# Altium schematic symbol library MCU.SchLib: 35 symbols (part 2 of 2)
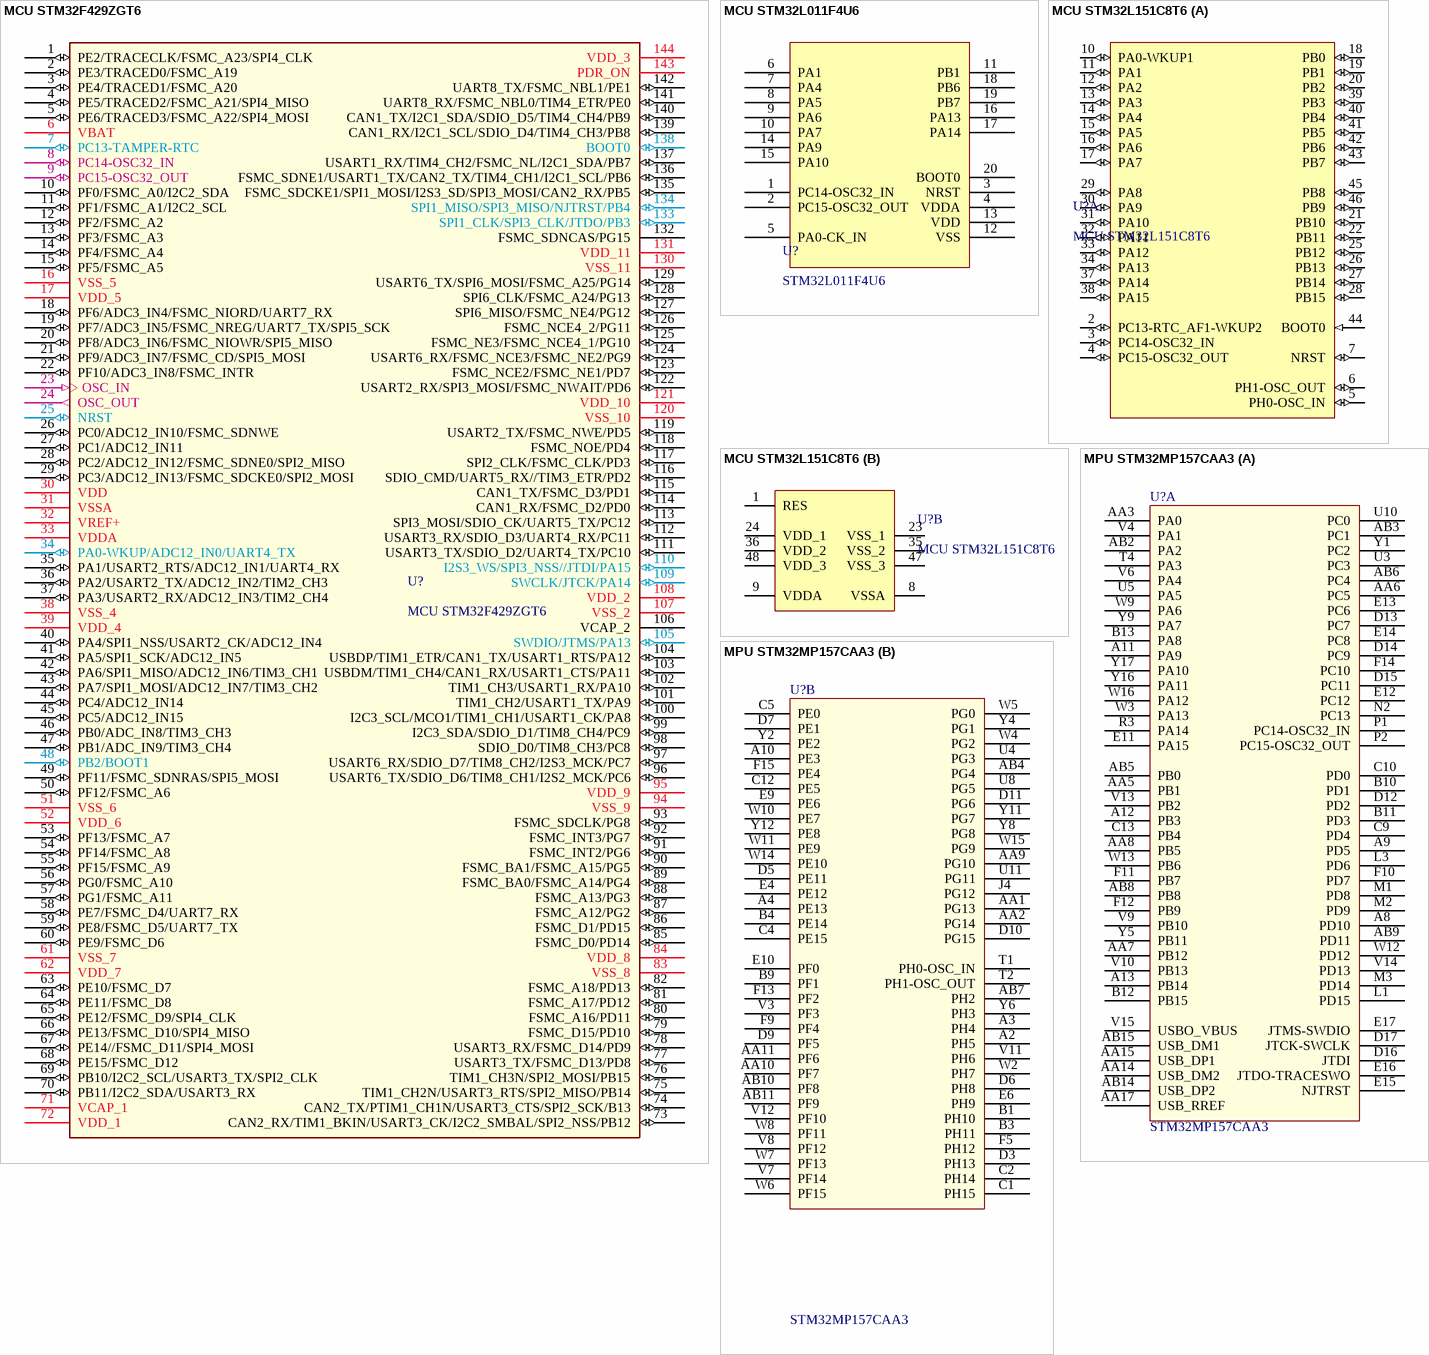
[diagram p10: symbols MCU STM32F429ZGT6 to MPU STM32MP157CAA3]

## MCU STM32L011F4U6
designator U?, comment STM32L011F4U6
ARM; ComponentLink1Description: 供应商链接; ComponentLink1URL: http://www.szlcsc.com/product/details_10393.html; Package: LQFP-48_7x7x05P; Supplier: LC; SuppliersPartNumber: C9861
footprint UFQFPN20
pins: 1 PC14-OSC32_IN, 2 PC15-OSC32_OUT, 3 NRST, 4 VDDA, 5 PA0-CK_IN, 6 PA1, 7 PA4, 8 PA5, 9 PA6, 10 PA7, 11 PB1, 12 VSS, 13 VDD, 14 PA9, 15 PA10, 16 PA13, 17 PA14, 18 PB6, 19 PB7, 20 BOOT0

## MCU STM32L151C8T6
designator U?
ARM; ComponentLink1Description: 供应商链接; ComponentLink1URL: http://www.szlcsc.com/product/details_10393.html; Package: LQFP-48_7x7x05P; Supplier: LC; SuppliersPartNumber: C9861
footprint LQFP48 7X7
part A pins: 2 PC13-RTC_AF1-WKUP2 (io), 3 PC14-OSC32_IN (io), 4 PC15-OSC32_OUT (io), 5 PH0-OSC_IN (io), 6 PH1-OSC_OUT (io), 7 NRST (io), 10 PA0-WKUP1 (io), 11 PA1 (io), 12 PA2 (io), 13 PA3 (io), 14 PA4 (io), 15 PA5 (io), 16 PA6 (io), 17 PA7 (io), 18 PB0 (io), 19 PB1 (io), 20 PB2 (io), 21 PB10 (io), 22 PB11 (io), 25 PB12 (io), 26 PB13 (io), 27 PB14 (io), 28 PB15 (io), 29 PA8 (io), 30 PA9 (io), 31 PA10 (io), 32 PA11 (io), 33 PA12 (io), 34 PA13 (io), 37 PA14 (io), 38 PA15 (io), 39 PB3 (io), 40 PB4 (io), 41 PB5 (io), 42 PB6 (io), 43 PB7 (io), 44 BOOT0 (in), 45 PB8 (io), 46 PB9 (io)
part B pins: 1 RES (power) "Connect to VDD", 8 VSSA (power), 9 VDDA (power), 23 VSS_1 (power), 24 VDD_1 (power), 35 VSS_2 (power), 36 VDD_2 (power), 47 VSS_3 (power), 48 VDD_3 (power)

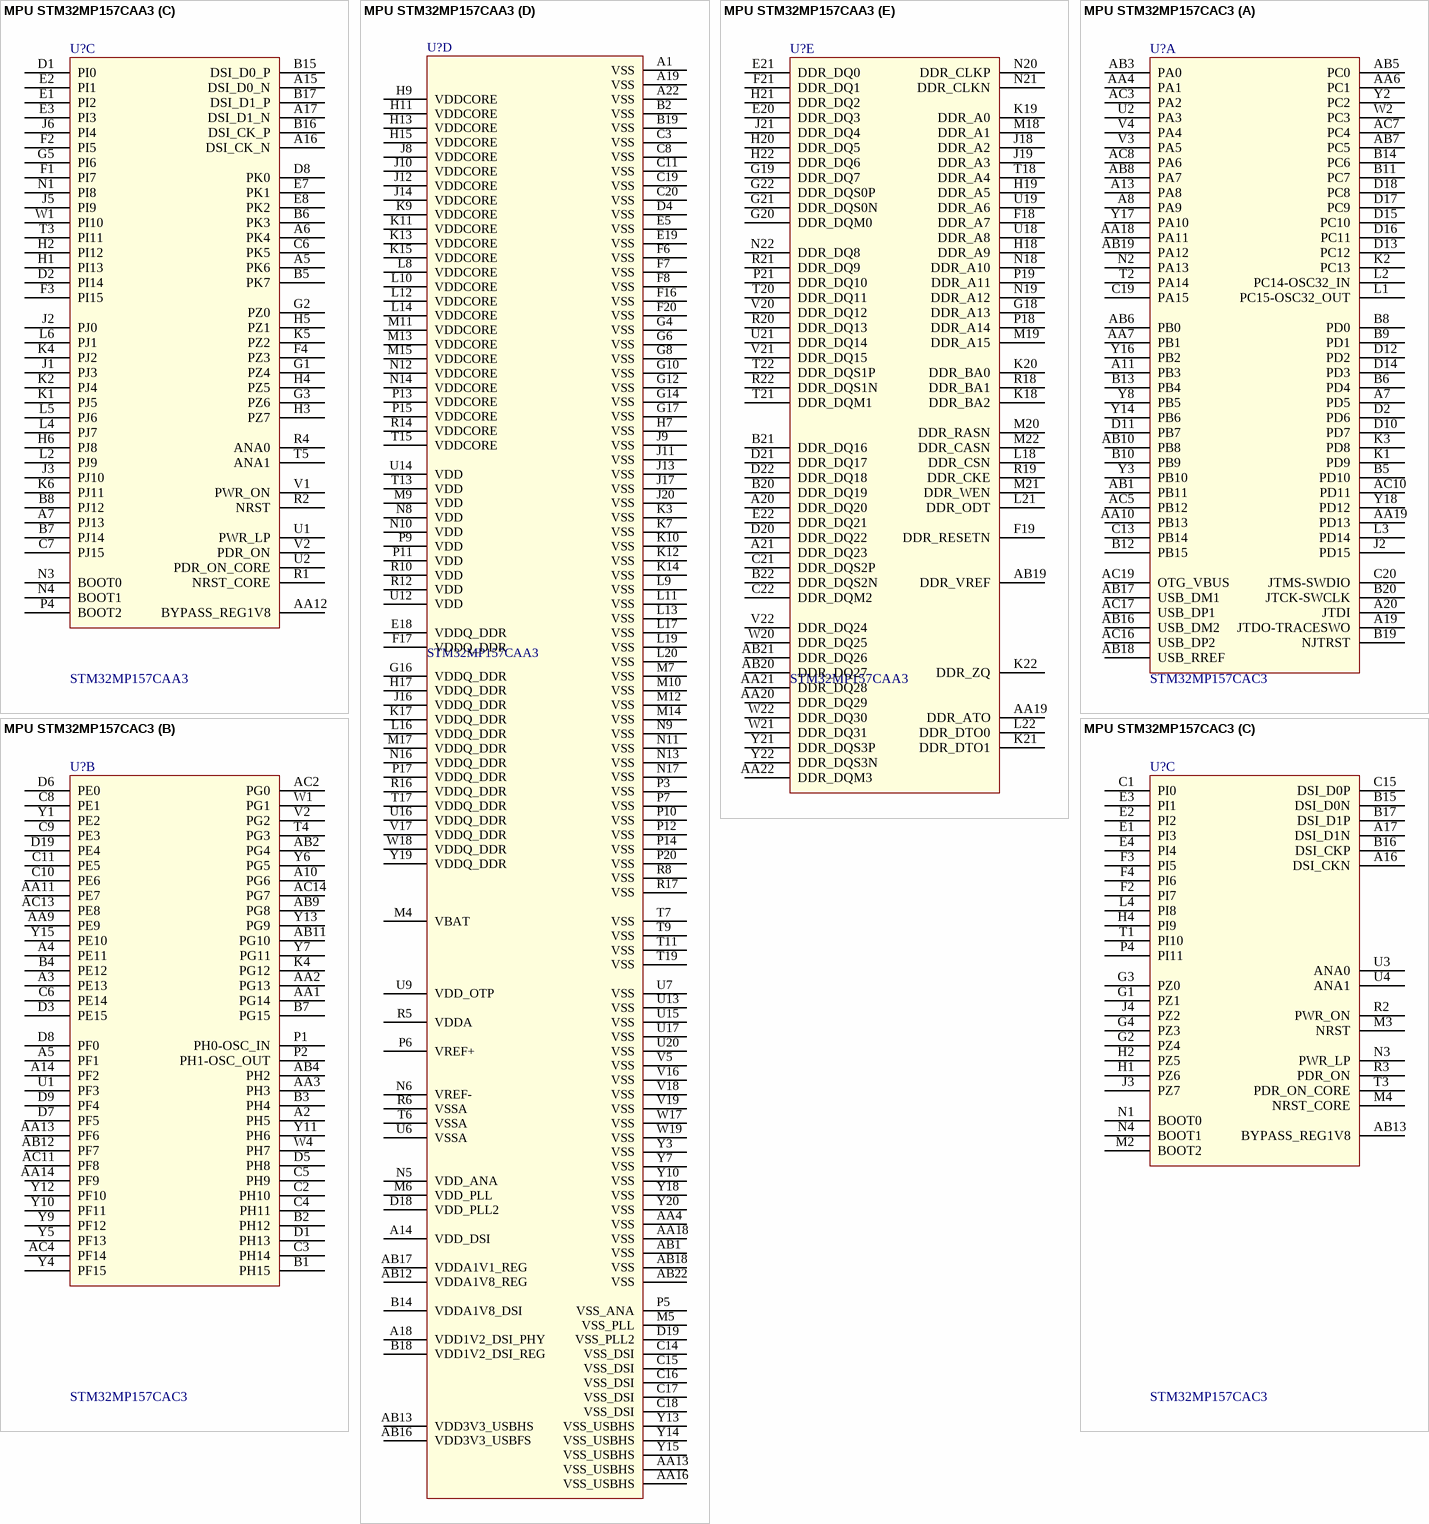
[diagram p8: symbols MPU STM32MP157CAA3 to MPU STM32MP157CAC3]

## MPU STM32MP157CAA3
designator U?, comment STM32MP157CAA3
MPU; Manuf_1: ST; Fitted: YES; Ordered_By: Subcon; Value: STM32MP157CAA3_Socket; Distrib: ST; ECCN_US/EU: *; Manuf_Part_1: STM32MP157CAA3; Order_Code: *
footprint LFBGA-448_18X18X05P
part A pins: A8 PD10, A9 PD5, A11 PA9, A12 PB3, A13 PB14, AA3 PA0, AA5 PB1, AA6 PC5, AA7 PB12, AA8 PB5, AA14 USB_DM2, AA15 USB_DP1, AA17 USB_RREF, AB2 PA2, AB3 PC1, AB5 PB0, AB6 PC4, AB8 PB8, AB9 PD11, AB14 USB_DP2, AB15 USB_DM1, B10 PD1, B11 PD3, B12 PB15, B13 PA8, C9 PD4, C10 PD0, C13 PB4, D12 PD2, D13 PC7, D14 PC9, D15 PC11, D16 JTDI, D17 JTCK-SWCLK, E11 PA15, E12 PC12, E13 PC6, E14 PC8, E15 NJTRST, E16 JTDO-TRACESWO, E17 JTMS-SWDIO, F10 PD7, F11 PB7, F12 PB9, F14 PC10, L1 PD15, L3 PD6, M1 PD8, M2 PD9, M3 PD14, N2 PC13, P1 PC14-OSC32_IN, P2 PC15-OSC32_OUT, R3 PA14, T4 PA3, U3 PC3, U5 PA5, U10 PC0, V4 PA1, V6 PA4, V9 PB10, V10 PB13, V13 PB2, V14 PD13, V15 USBO_VBUS, W3 PA13, W9 PA6, W12 PD12, W13 PB6, W16 PA12, Y1 PC2, Y5 PB11, Y9 PA7, Y16 PA11, Y17 PA10
part B pins: A2 PH5, A3 PH4, A4 PE13, A10 PE3, AA1 PG13, AA2 PG14, AA9 PG10, AA10 PF7, AA11 PF6, AB4 PG4, AB7 PH2, AB10 PF8, AB11 PF9, B1 PH10, B3 PH11, B4 PE14, B9 PF1, C1 PH15, C2 PH14, C4 PE15, C5 PE0, C12 PE5, D3 PH13, D5 PE11, D6 PH8, D7 PE1, D9 PF5, D10 PG15, D11 PG6, E4 PE12, E6 PH9, E9 PE6, E10 PF0, F5 PH12, F9 PF4, F13 PF2, F15 PE4, J4 PG12, T1 PH0-OSC_IN, T2 PH1-OSC_OUT, U4 PG3, U8 PG5, U11 PG11, V3 PF3, V7 PF14, V8 PF12, V11 PH6, V12 PF10, W2 PH7, W4 PG2, W5 PG0, W6 PF15, W7 PF13, W8 PF11, W10 PE7, W11 PE9, W14 PE10, W15 PG9, Y2 PE2, Y4 PG1, Y6 PH3, Y8 PG8, Y11 PG7, Y12 PE8
part C pins: A5 PK6, A6 PK4, A7 PJ13, A15 DSI_D0_N, A16 DSI_CK_N, A17 DSI_D1_N, AA12 BYPASS_REG1V8, B5 PK7, B6 PK3, B7 PJ14, B8 PJ12, B15 DSI_D0_P, B16 DSI_CK_P, B17 DSI_D1_P, C6 PK5, C7 PJ15, D1 PI0, D2 PI14, D8 PK0, E1 PI2, E2 PI1, E3 PI3, E7 PK1, E8 PK2, F1 PI7, F2 PI5, F3 PI15, F4 PZ3, G1 PZ4, G2 PZ0, G3 PZ6, G5 PI6, H1 PI13, H2 PI12, H3 PZ7, H4 PZ5, H5 PZ1, H6 PJ8, J1 PJ3, J2 PJ0, J3 PJ10, J5 PI9, J6 PI4, K1 PJ5, K2 PJ4, K4 PJ2, K5 PZ2, K6 PJ11, L2 PJ9, L4 PJ7, L5 PJ6, L6 PJ1, N1 PI8, N3 BOOT0, N4 BOOT1, P4 BOOT2, R1 NRST_CORE, R2 NRST, R4 ANA0, T3 PI11, T5 ANA1, U1 PWR_LP, U2 PDR_ON_CORE, V1 PWR_ON, V2 PDR_ON, W1 PI10
part D pins: A1 VSS, A14 VDD_DSI, A18 VDD1V2_DSI_PHY, A19 VSS, A22 VSS, AA4 VSS, AA13 VSS_USBHS, AA16 VSS_USBHS, AA18 VSS, AB1 VSS, AB12 VDDA1V8_REG, AB13 VDD3V3_USBHS, AB16 VDD3V3_USBFS, AB17 VDDA1V1_REG, AB18 VSS, AB22 VSS, B2 VSS, B14 VDDA1V8_DSI, B18 VDD1V2_DSI_REG, B19 VSS, C3 VSS, C8 VSS, C11 VSS, C14 VSS_DSI, C15 VSS_DSI, C16 VSS_DSI, C17 VSS_DSI, C18 VSS_DSI, C19 VSS, C20 VSS, D4 VSS, D18 VDD_PLL2, D19 VSS_PLL2, E5 VSS, E18 VDDQ_DDR, E19 VSS, F6 VSS, F7 VSS, F8 VSS, F16 VSS, F17 VDDQ_DDR, F20 VSS, G4 VSS, G6 VSS, G8 VSS, G10 VSS, G12 VSS, G14 VSS, G16 VDDQ_DDR, G17 VSS, H7 VSS, H9 VDDCORE, H11 VDDCORE, H13 VDDCORE, H15 VDDCORE, H17 VDDQ_DDR, J8 VDDCORE, J9 VSS, J10 VDDCORE, J11 VSS, J12 VDDCORE, J13 VSS, J14 VDDCORE, J16 VDDQ_DDR, J17 VSS, J20 VSS, K3 VSS, K7 VSS, K9 VDDCORE, K10 VSS, K11 VDDCORE, K12 VSS, K13 VDDCORE, K14 VSS, K15 VDDCORE, K17 VDDQ_DDR, L8 VDDCORE, L9 VSS, L10 VDDCORE, L11 VSS, L12 VDDCORE, L13 VSS, L14 VDDCORE, L16 VDDQ_DDR, L17 VSS, L19 VSS, L20 VSS, M4 VBAT, M5 VSS_PLL, M6 VDD_PLL, M7 VSS, M9 VDD, M10 VSS, M11 VDDCORE, M12 VSS, M13 VDDCORE, M14 VSS, M15 VDDCORE, M17 VDDQ_DDR, N5 VDD_ANA, N6 VREF-, N8 VDD, N9 VSS, N10 VDD, N11 VSS, N12 VDDCORE, N13 VSS, N14 VDDCORE, N16 VDDQ_DDR, N17 VSS, P3 VSS, P5 VSS_ANA, P6 VREF+, P7 VSS, P9 VDD, P10 VSS, P11 VDD, P12 VSS, P13 VDDCORE, P14 VSS, P15 VDDCORE, P17 VDDQ_DDR, P20 VSS, R5 VDDA, R6 VSSA, R8 VSS, R10 VDD, R12 VDD, R14 VDDCORE, R16 VDDQ_DDR, R17 VSS, T6 VSSA, T7 VSS, T9 VSS, T11 VSS, T13 VDD, T15 VDDCORE, T17 VDDQ_DDR, T19 VSS, U6 VSSA, U7 VSS, U9 VDD_OTP, U12 VDD, U13 VSS, U14 VDD, U15 VSS, U16 VDDQ_DDR, U17 VSS, U20 VSS, V5 VSS, V16 VSS, V17 VDDQ_DDR, V18 VSS, V19 VSS, W17 VSS, W18 VDDQ_DDR, W19 VSS, Y3 VSS, Y7 VSS, Y10 VSS, Y13 VSS_USBHS, Y14 VSS_USBHS, Y15 VSS_USBHS, Y18 VSS, Y19 VDDQ_DDR, Y20 VSS
part E pins: A20 DDR_DQ20, A21 DDR_DQ23, AA19 DDR_ATO, AA20 DDR_DQ29, AA21 DDR_DQ28, AA22 DDR_DQM3, AB19 DDR_VREF, AB20 DDR_DQ27, AB21 DDR_DQ26, B20 DDR_DQ19, B21 DDR_DQ16, B22 DDR_DQS2N, C21 DDR_DQS2P, C22 DDR_DQM2, D20 DDR_DQ22, D21 DDR_DQ17, D22 DDR_DQ18, E20 DDR_DQ3, E21 DDR_DQ0, E22 DDR_DQ21, F18 DDR_A7, F19 DDR_RESETN, F21 DDR_DQ1, G18 DDR_A13, G19 DDR_DQ7, G20 DDR_DQM0, G21 DDR_DQS0N, G22 DDR_DQS0P, H18 DDR_A9, H19 DDR_A5, H20 DDR_DQ5, H21 DDR_DQ2, H22 DDR_DQ6, J18 DDR_A2, J19 DDR_A3, J21 DDR_DQ4, K18 DDR_BA2, K19 DDR_A0, K20 DDR_BA0, K21 DDR_DTO1, K22 DDR_ZQ, L18 DDR_CSN, L21 DDR_ODT, L22 DDR_DTO0, M18 DDR_A1, M19 DDR_A15, M20 DDR_RASN, M21 DDR_WEN, M22 DDR_CASN, N18 DDR_A10, N19 DDR_A12, N20 DDR_CLKP, N21 DDR_CLKN, N22 DDR_DQ8, P18 DDR_A14, P19 DDR_A11, P21 DDR_DQ10, R18 DDR_BA1, R19 DDR_CKE, R20 DDR_DQ13, R21 DDR_DQ9, R22 DDR_DQS1N, T18 DDR_A4, T20 DDR_DQ11, T21 DDR_DQM1, T22 DDR_DQS1P, U18 DDR_A8, U19 DDR_A6, U21 DDR_DQ14, V20 DDR_DQ12, V21 DDR_DQ15, V22 DDR_DQ24, W20 DDR_DQ25, W21 DDR_DQ31, W22 DDR_DQ30, Y21 DDR_DQS3P, Y22 DDR_DQS3N

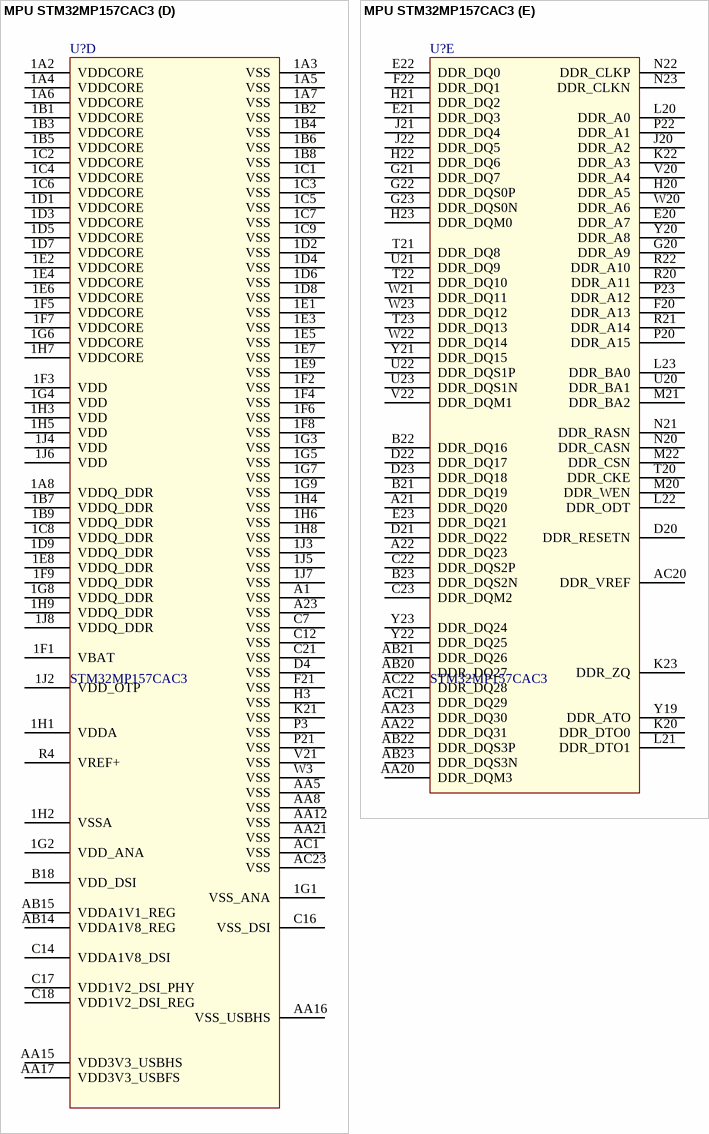
[diagram p9: symbol MPU STM32MP157CAC3]

## MPU STM32MP157CAC3
designator U?, comment STM32MP157CAC3
MPU; Internal_Part_Number: MCD-00677; Part_Type: IC; Manufacturer: STMICROELECTRONICS; BMS_Part_Number: 9175503; Provided_By: SUBCO with ST control; Status: Footprint available; Manufacturer_Part_Number: STM32MP157CAC3; ComponentLink1Description: Datasheet; ComponentLink1URL: http://tunmcdsvn.tun.st.com/Component_Datasheet_Library/Trunk/IC/STM_MPU_12x12_POA_DM00342580_POA12x12; Value: STM32MP157CAC3
footprint TFBGA361_12X12
part A pins: A7 PD5, A8 PA9, A11 PB3, A13 PA8, A19 JTDO-TRACESWO, A20 JTDI, AA4 PA1, AA6 PC1, AA7 PB1, AA10 PB13, AA18 PA11, AA19 PD13, AB1 PB11, AB3 PA0, AB5 PC0, AB6 PB0, AB7 PC5, AB8 PA7, AB10 PB8, AB16 USB_DM2, AB17 USB_DM1, AB18 USB_RREF, AB19 PA12, AC3 PA2, AC5 PB12, AC7 PC4, AC8 PA6, AC10 PD11, AC16 USB_DP2, AC17 USB_DP1, AC19 OTG_VBUS, B5 PD10, B6 PD4, B8 PD0, B9 PD1, B10 PB9, B11 PC7, B12 PB15, B13 PB4, B14 PC6, B19 NJTRST, B20 JTCK-SWCLK, C13 PB14, C19 PA15, C20 JTMS-SWDIO, D2 PD6, D10 PD7, D11 PB7, D12 PD2, D13 PC12, D14 PD3, D15 PC10, D16 PC11, D17 PC9, D18 PC8, J2 PD15, K1 PD9, K2 PC13, K3 PD8, L1 PC15-OSC32_OUT, L2 PC14-OSC32_IN, L3 PD14, N2 PA13, T2 PA14, U2 PA3, V3 PA5, V4 PA4, W2 PC3, Y2 PC2, Y3 PB10, Y8 PB5, Y14 PB6, Y16 PB2, Y17 PA10, Y18 PD12
part B pins: A2 PH5, A3 PE13, A4 PE11, A5 PF1, A10 PG6, A14 PF2, AA1 PG14, AA2 PG13, AA3 PH3, AA9 PE9, AA11 PE7, AA13 PF6, AA14 PF9, AB2 PG4, AB4 PH2, AB9 PG8, AB11 PG10, AB12 PF7, AC2 PG0, AC4 PF14, AC11 PF8, AC13 PE8, AC14 PG7, B1 PH15, B2 PH12, B3 PH4, B4 PE12, B7 PG15, C2 PH10, C3 PH14, C4 PH11, C5 PH9, C6 PE14, C8 PE1, C9 PE3, C10 PE6, C11 PE5, D1 PH13, D3 PE15, D5 PH8, D6 PE0, D7 PF5, D8 PF0, D9 PF4, D19 PE4, K4 PG12, P1 PH0-OSC_IN, P2 PH1-OSC_OUT, T4 PG3, U1 PF3, V2 PG2, W1 PG1, W4 PH7, Y1 PE2, Y4 PF15, Y5 PF13, Y6 PG5, Y7 PG11, Y9 PF12, Y10 PF11, Y11 PH6, Y12 PF10, Y13 PG9, Y15 PE10
part C pins: A16 DSI_CKN, A17 DSI_D1N, AB13 BYPASS_REG1V8, B15 DSI_D0N, B16 DSI_CKP, B17 DSI_D1P, C1 PI0, C15 DSI_D0P, E1 PI3, E2 PI2, E3 PI1, E4 PI4, F2 PI7, F3 PI5, F4 PI6, G1 PZ1, G2 PZ4, G3 PZ0, G4 PZ3, H1 PZ6, H2 PZ5, H4 PI9, J3 PZ7, J4 PZ2, L4 PI8, M2 BOOT2, M3 NRST, M4 NRST_CORE, N1 BOOT0, N3 PWR_LP, N4 BOOT1, P4 PI11, R2 PWR_ON, R3 PDR_ON, T1 PI10, T3 PDR_ON_CORE, U3 ANA0, U4 ANA1
part D pins: 1A2 VDDCORE, 1A3 VSS, 1A4 VDDCORE, 1A5 VSS, 1A6 VDDCORE, 1A7 VSS, 1A8 VDDQ_DDR, 1B1 VDDCORE, 1B2 VSS, 1B3 VDDCORE, 1B4 VSS, 1B5 VDDCORE, 1B6 VSS, 1B7 VDDQ_DDR, 1B8 VSS, 1B9 VDDQ_DDR, 1C1 VSS, 1C2 VDDCORE, 1C3 VSS, 1C4 VDDCORE, 1C5 VSS, 1C6 VDDCORE, 1C7 VSS, 1C8 VDDQ_DDR, 1C9 VSS, 1D1 VDDCORE, 1D2 VSS, 1D3 VDDCORE, 1D4 VSS, 1D5 VDDCORE, 1D6 VSS, 1D7 VDDCORE, 1D8 VSS, 1D9 VDDQ_DDR, 1E1 VSS, 1E2 VDDCORE, 1E3 VSS, 1E4 VDDCORE, 1E5 VSS, 1E6 VDDCORE, 1E7 VSS, 1E8 VDDQ_DDR, 1E9 VSS, 1F1 VBAT, 1F2 VSS, 1F3 VDD, 1F4 VSS, 1F5 VDDCORE, 1F6 VSS, 1F7 VDDCORE, 1F8 VSS, 1F9 VDDQ_DDR, 1G1 VSS_ANA, 1G2 VDD_ANA, 1G3 VSS, 1G4 VDD, 1G5 VSS, 1G6 VDDCORE, 1G7 VSS, 1G8 VDDQ_DDR, 1G9 VSS, 1H1 VDDA, 1H2 VSSA, 1H3 VDD, 1H4 VSS, 1H5 VDD, 1H6 VSS, 1H7 VDDCORE, 1H8 VSS, 1H9 VDDQ_DDR, 1J2 VDD_OTP, 1J3 VSS, 1J4 VDD, 1J5 VSS, 1J6 VDD, 1J7 VSS, 1J8 VDDQ_DDR, A1 VSS, A23 VSS, AA5 VSS, AA8 VSS, AA12 VSS, AA15 VDD3V3_USBHS, AA16 VSS_USBHS, AA17 VDD3V3_USBFS, AA21 VSS, AB14 VDDA1V8_REG, AB15 VDDA1V1_REG, AC1 VSS, AC23 VSS, B18 VDD_DSI, C7 VSS, C12 VSS, C14 VDDA1V8_DSI, C16 VSS_DSI, C17 VDD1V2_DSI_PHY, C18 VDD1V2_DSI_REG, C21 VSS, D4 VSS, F21 VSS, H3 VSS, K21 VSS, P3 VSS, P21 VSS, R4 VREF+, V21 VSS, W3 VSS
part E pins: A21 DDR_DQ20, A22 DDR_DQ23, AA20 DDR_DQM3, AA22 DDR_DQ31, AA23 DDR_DQ30, AB20 DDR_DQ27, AB21 DDR_DQ26, AB22 DDR_DQS3P, AB23 DDR_DQS3N, AC20 DDR_VREF, AC21 DDR_DQ29, AC22 DDR_DQ28, B21 DDR_DQ19, B22 DDR_DQ16, B23 DDR_DQS2N, C22 DDR_DQS2P, C23 DDR_DQM2, D20 DDR_RESETN, D21 DDR_DQ22, D22 DDR_DQ17, D23 DDR_DQ18, E20 DDR_A7, E21 DDR_DQ3, E22 DDR_DQ0, E23 DDR_DQ21, F20 DDR_A13, F22 DDR_DQ1, G20 DDR_A9, G21 DDR_DQ7, G22 DDR_DQS0P, G23 DDR_DQS0N, H20 DDR_A5, H21 DDR_DQ2, H22 DDR_DQ6, H23 DDR_DQM0, J20 DDR_A2, J21 DDR_DQ4, J22 DDR_DQ5, K20 DDR_DTO0, K22 DDR_A3, K23 DDR_ZQ, L20 DDR_A0, L21 DDR_DTO1, L22 DDR_ODT, L23 DDR_BA0, M20 DDR_WEN, M21 DDR_BA2, M22 DDR_CSN, N20 DDR_CASN, N21 DDR_RASN, N22 DDR_CLKP, N23 DDR_CLKN, P20 DDR_A15, P22 DDR_A1, P23 DDR_A12, R20 DDR_A11, R21 DDR_A14, R22 DDR_A10, T20 DDR_CKE, T21 DDR_DQ8, T22 DDR_DQ10, T23 DDR_DQ13, U20 DDR_BA1, U21 DDR_DQ9, U22 DDR_DQS1P, U23 DDR_DQS1N, V20 DDR_A4, V22 DDR_DQM1, W20 DDR_A6, W21 DDR_DQ11, W22 DDR_DQ14, W23 DDR_DQ12, Y19 DDR_ATO, Y20 DDR_A8, Y21 DDR_DQ15, Y22 DDR_DQ25, Y23 DDR_DQ24